# Altium footprint library RN4020 MODULE-24.PcbLib: 1 footprints
Each footprint in its own frame and in the unit in brackets; x right, y up, seen from the top. Pads: shape width x height; smd on the part's side, far side on the other; paste and mask are expansions set on the pad; w line width, h text height; cw(c..) or ccw(c..) is an arc to the next point about the centre after c.
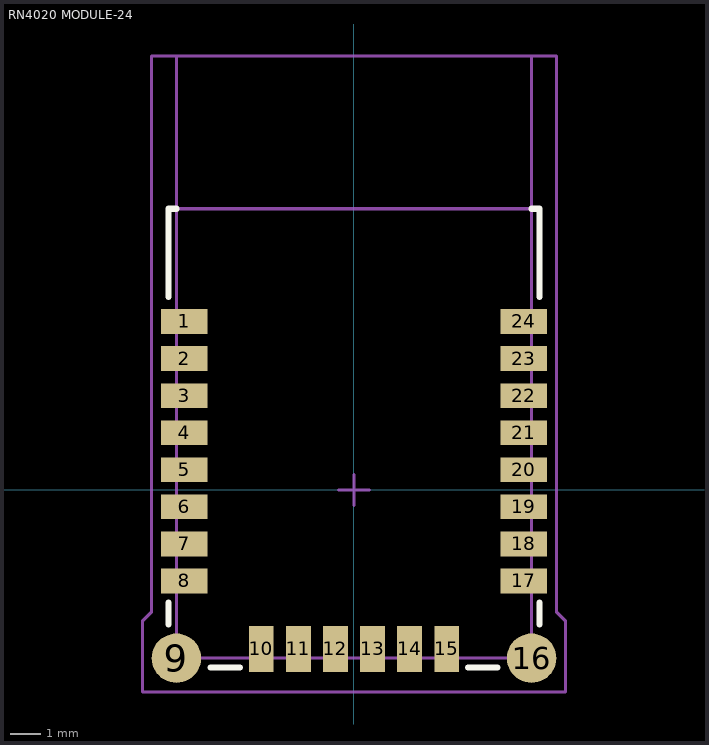
[diagram p0: the footprint, top view; thin cyan lines are the x and y axes]

## RN4020 MODULE-24 [mm]
pads (24):
  rect 1.5x0.8 smd: 1(-5.5,5.45) 2(-5.5,4.25) 3(-5.5,3.05) 4(-5.5,1.85) 5(-5.5,0.65) 6(-5.5,-0.55) 7(-5.5,-1.75) 8(-5.5,-2.95) 17(5.5,-2.95) 18(5.5,-1.75) 19(5.5,-0.55) 20(5.5,0.65) 21(5.5,1.85) 22(5.5,3.05) 23(5.5,4.25) 24(5.5,5.45)
  round 1.6 smd: 9(-5.75,-5.45) 16(5.75,-5.45)
  rect 0.8x1.5 smd: 10(-3,-5.15) 11(-1.8,-5.15) 12(-0.6,-5.15) 13(0.6,-5.15) 14(1.8,-5.15) 15(3,-5.15)
Top Overlay:
  lines w0.2: -6,-4.35 -6,-3.65 ; -6,6.25 -6,9.1 -5.75,9.1 ; -4.65,-5.75 -3.7,-5.75 ; 3.7,-5.75 4.65,-5.75 ; 5.75,9.1 6,9.1 6,6.25 ; 6,-4.35 6,-3.65
Assy TOP (M11):
  lines w0.1: -5.75,9.1 5.75,9.1 ; -5.75,-5.45 5.75,-5.45 5.75,14.05 -5.75,14.05 -5.75,-5.45
Guard TOP (M15):
  lines w0.1: -0.5,0 0.5,0 ; 0,-0.5 0,0.5 ; -6.85,-6.55 6.85,-6.55 6.85,-4.25 6.55,-3.95 6.55,14.05 -6.55,14.05 -6.55,-3.95 -6.85,-4.25 -6.85,-6.55
3D body: height 2.3, standoff 0.8, extent -4.95,-4.95 4.95,9.55
3D body: height 0.8, standoff 0, extent -5.75,-5.45 5.75,14.05